# Altium footprint library Package_SO.PcbLib: 393 footprints (part 6 of 25)
Each footprint in its own frame and in the unit in brackets; x right, y up, seen from the top. Pads: shape width x height; smd on the part's side, far side on the other; paste and mask are expansions set on the pad; w line width, h text height; cw(c..) or ccw(c..) is an arc to the next point about the centre after c.
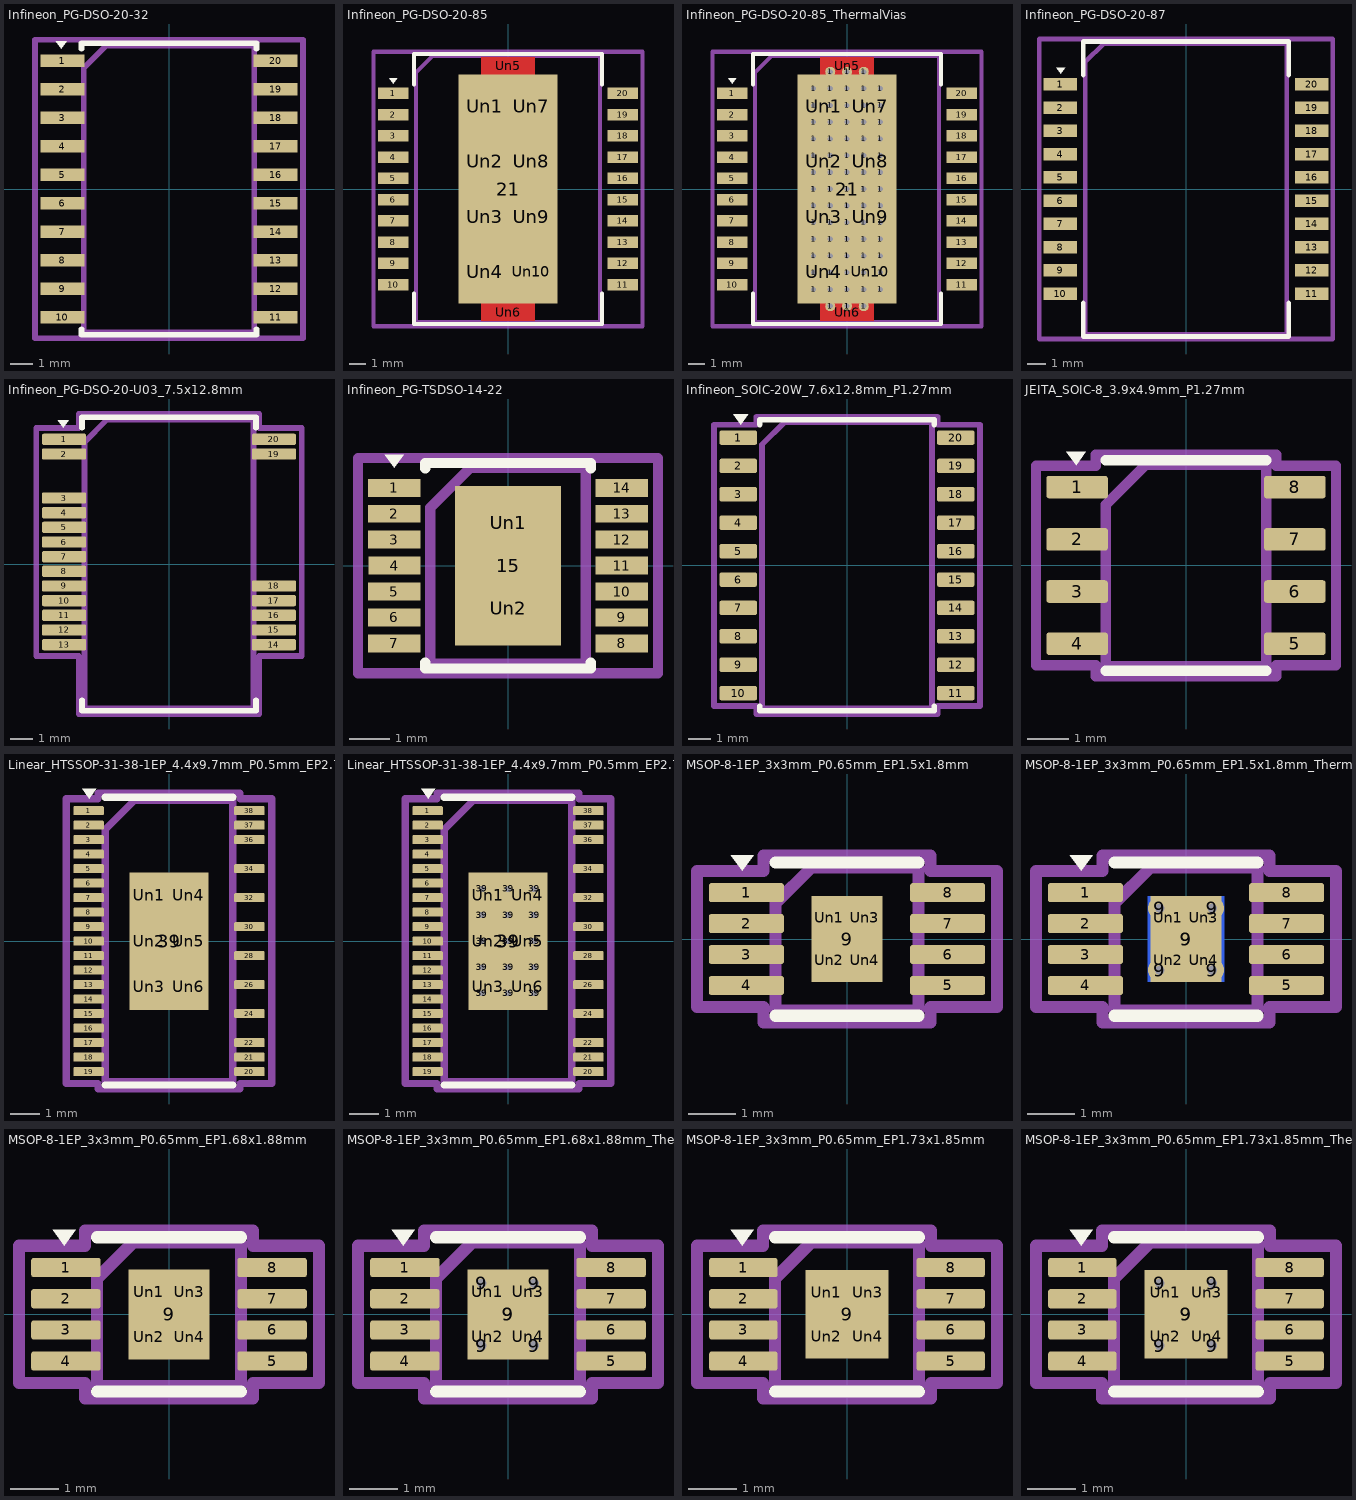
[diagram p5: the footprints below, top view; thin cyan lines are the x and y axes]

## Infineon_PG-DSO-20-32 [mm]
pads (20):
  rect 1.95x0.55 smd: 1(-4.75,5.715) 2(-4.75,4.445) 3(-4.75,3.175) 4(-4.75,1.905) 5(-4.75,0.635) 6(-4.75,-0.635) 7(-4.75,-1.905) 8(-4.75,-3.175) 9(-4.75,-4.445) 10(-4.75,-5.715) 11(4.75,-5.715) 12(4.75,-4.445) 13(4.75,-3.175) 14(4.75,-1.905) 15(4.75,-0.635) 16(4.75,0.635) 17(4.75,1.905) 18(4.75,3.175) 19(4.75,4.445) 20(4.75,5.715)
F.SilkS:
  region: -4.8,6.25 -5.04,6.58 -4.56,6.58
  lines w0.254: -3.9,-6.25 -3.9,-6.5 3.9,-6.5 3.9,-6.25 ; -3.9,6.25 -3.9,6.5 3.9,6.5 3.9,6.25
Top Assembly:
  lines w0.254: -3.8,-6.4 3.8,-6.4 3.8,6.4 -2.8,6.4 -3.8,5.4 -3.8,-6.4
  text "'.Designator'" at 0.84,-4.047 h1
Top Courtyard:
  lines w0.254: -5.98,-6.65 5.98,-6.65 5.98,6.65 -5.98,6.65 -5.98,-6.65
Top Designator:
  text ".Designator" at -7.618,-0.508 h1.52

## Infineon_PG-DSO-20-85 [mm]
pads (31):
  rect 1.83x0.68 smd: 1(-6.865,5.715) 2(-6.865,4.445) 3(-6.865,3.175) 4(-6.865,1.905) 5(-6.865,0.635) 6(-6.865,-0.635) 7(-6.865,-1.905) 8(-6.865,-3.175) 9(-6.865,-4.445) 10(-6.865,-5.715) 11(6.865,-5.715) 12(6.865,-4.445) 13(6.865,-3.175) 14(6.865,-1.905) 15(6.865,-0.635) 16(6.865,0.635) 17(6.865,1.905) 18(6.865,3.175) 19(6.865,4.445) 20(6.865,5.715)
  rect 5.9x13.7 smd: 21(0,0)
  rect 2.4x2.8 on Top Paste: Un1(-1.4,4.95) Un2(-1.4,1.65) Un3(-1.4,-1.65) Un4(-1.4,-4.95) Un7(1.4,4.95) Un8(1.4,1.65) Un9(1.4,-1.65) Un10(1.4,-4.95)
  rect 3.2x1 on Top Paste: Un5(0,7.36) Un6(0,-7.36)
F.Cu:
  region: 1.6,-7.87 -1.6,-7.87 -1.6,7.87 1.6,7.87
F.SilkS:
  region: -6.85,6.3 -7.09,6.63 -6.61,6.63
  lines w0.254: -5.61,-6.235 -5.61,-8.06 5.61,-8.06 5.61,-6.235 ; -5.61,6.235 -5.61,8.06 5.61,8.06 5.61,6.235
F.Mask:
  region: 1.6,-7.87 -1.6,-7.87 -1.6,7.87 1.6,7.87
Top Assembly:
  lines w0.254: -5.5,-7.95 5.5,-7.95 5.5,7.95 -4.5,7.95 -5.5,6.95 -5.5,-7.95
  text "'.Designator'" at -4.047,-0.84 h1
Top Courtyard:
  lines w0.254: -8.03,-8.2 8.03,-8.2 8.03,8.2 -8.03,8.2 -8.03,-8.2
Top Designator:
  text ".Designator" at -7.618,-0.508 h1.52

## Infineon_PG-DSO-20-85_ThermalVias [mm]
pads (113):
  rect 1.83x0.68 smd: 1(-6.865,5.715) 2(-6.865,4.445) 3(-6.865,3.175) 4(-6.865,1.905) 5(-6.865,0.635) 6(-6.865,-0.635) 7(-6.865,-1.905) 8(-6.865,-3.175) 9(-6.865,-4.445) 10(-6.865,-5.715) 11(6.865,-5.715) 12(6.865,-4.445) 13(6.865,-3.175) 14(6.865,-1.905) 15(6.865,-0.635) 16(6.865,0.635) 17(6.865,1.905) 18(6.865,3.175) 19(6.865,4.445) 20(6.865,5.715)
  round 0.6 hole 0.3: 1(-2,-6) 1(-2,-5) 1(-2,-4) 1(-2,-3) 1(-2,-2) 1(-2,-1) 1(-2,0) 1(-2,0) 1(-2,1) 1(-2,2) 1(-2,3) 1(-2,4) 1(-2,5) 1(-2,6) 1(-1,-7) 1(-1,-6) 1(-1,-5) 1(-1,-4) 1(-1,-3) 1(-1,-2) 1(-1,-1) 1(-1,0) 1(-1,0) 1(-1,1) 1(-1,2) 1(-1,3) 1(-1,4) 1(-1,5) 1(-1,6) 1(-1,7) 1(0,-7) 1(0,-7) 1(0,-6) 1(0,-6) 1(0,-5) 1(0,-5) 1(0,-4) 1(0,-4) 1(0,-3) 1(0,-3) 1(0,-2) 1(0,-2) 1(0,-1) 1(0,-1) 1(0,0) 1(0,0) 1(0,1) 1(0,2) 1(0,3) 1(0,4) 1(0,5) 1(0,6) 1(0,7) 1(1,-7) 1(1,-6) 1(1,-5) 1(1,-4) 1(1,-3) 1(1,-2) 1(1,-1) 1(1,0) 1(1,0) 1(1,1) 1(1,2) 1(1,3) 1(1,4) 1(1,5) 1(1,6) 1(1,7) 1(2,-6) 1(2,-5) 1(2,-4) 1(2,-3) 1(2,-2) 1(2,-1) 1(2,0) 1(2,1) 1(2,2) 1(2,3) 1(2,4) 1(2,5) 1(2,6)
  rect 5.9x13.7 smd: 21(0,0)
  rect 2.4x2.8 on Top Paste: Un1(-1.4,4.95) Un2(-1.4,1.65) Un3(-1.4,-1.65) Un4(-1.4,-4.95) Un7(1.4,4.95) Un8(1.4,1.65) Un9(1.4,-1.65) Un10(1.4,-4.95)
  rect 3.2x1 on Top Paste: Un5(0,7.36) Un6(0,-7.36)
F.Cu:
  region: 1.6,-7.87 -1.6,-7.87 -1.6,7.87 1.6,7.87
F.SilkS:
  region: -6.85,6.3 -7.09,6.63 -6.61,6.63
  lines w0.254: -5.61,-6.235 -5.61,-8.06 5.61,-8.06 5.61,-6.235 ; -5.61,6.235 -5.61,8.06 5.61,8.06 5.61,6.235
F.Mask:
  region: 1.6,-7.87 -1.6,-7.87 -1.6,7.87 1.6,7.87
Top Assembly:
  lines w0.254: -5.5,-7.95 5.5,-7.95 5.5,7.95 -4.5,7.95 -5.5,6.95 -5.5,-7.95
  text "'.Designator'" at -4.047,-0.84 h1
Top Courtyard:
  lines w0.254: -8.03,-8.2 8.03,-8.2 8.03,8.2 -8.03,8.2 -8.03,-8.2
Top Designator:
  text ".Designator" at -7.618,-0.508 h1.52

## Infineon_PG-DSO-20-87 [mm]
pads (20):
  rect 1.83x0.68 smd: 1(-6.865,5.715) 2(-6.865,4.445) 3(-6.865,3.175) 4(-6.865,1.905) 5(-6.865,0.635) 6(-6.865,-0.635) 7(-6.865,-1.905) 8(-6.865,-3.175) 9(-6.865,-4.445) 10(-6.865,-5.715) 11(6.865,-5.715) 12(6.865,-4.445) 13(6.865,-3.175) 14(6.865,-1.905) 15(6.865,-0.635) 16(6.865,0.635) 17(6.865,1.905) 18(6.865,3.175) 19(6.865,4.445) 20(6.865,5.715)
F.SilkS:
  region: -6.85,6.3 -7.09,6.63 -6.61,6.63
  lines w0.254: -5.61,-6.235 -5.61,-8.06 5.61,-8.06 5.61,-6.235 ; -5.61,6.235 -5.61,8.06 5.61,8.06 5.61,6.235
Top Assembly:
  lines w0.254: -5.5,-7.95 5.5,-7.95 5.5,7.95 -4.5,7.95 -5.5,6.95 -5.5,-7.95
  text "'.Designator'" at -4.047,-0.84 h1
Top Courtyard:
  lines w0.254: -8.03,-8.2 8.03,-8.2 8.03,8.2 -8.03,8.2 -8.03,-8.2
Top Designator:
  text ".Designator" at -7.618,-0.508 h1.52

## Infineon_PG-DSO-20-U03_7.5x12.8mm [mm]
pads (20):
  rrect25% 1.95x0.5 smd: 1(-4.65,5.525) 2(-4.65,4.875) 3(-4.65,2.925) 4(-4.65,2.275) 5(-4.65,1.625) 6(-4.65,0.975) 7(-4.65,0.325) 8(-4.65,-0.325) 9(-4.65,-0.975) 10(-4.65,-1.625) 11(-4.65,-2.275) 12(-4.65,-2.925) 13(-4.65,-3.575) 14(4.65,-3.575) 15(4.65,-2.925) 16(4.65,-2.275) 17(4.65,-1.625) 18(4.65,-0.975) 19(4.65,4.875) 20(4.65,5.525)
F.SilkS:
  region: -4.687,6.035 -4.928,6.365 -4.447,6.365
  lines w0.254: -3.86,-6.035 -3.86,-6.51 0,-6.51 3.86,-6.51 3.86,-6.035 ; -3.86,6.035 -3.86,6.51 0,6.51 3.86,6.51 3.86,6.035
Top Assembly:
  lines w0.254: -3.75,-6.4 3.75,-6.4 3.75,6.4 -2.75,6.4 -3.75,5.4 -3.75,-6.4
  text "'.Designator'" at -4.047,-0.84 h1
Top Courtyard:
  lines w0.254: -5.88,-4.08 -4,-4.08 -4,-6.65 4,-6.65 4,-4.08 5.88,-4.08 5.88,6.03 4,6.03 4,6.65 -4,6.65 -4,6.03 -5.88,6.03 -5.88,-4.08
Top Designator:
  text ".Designator" at -7.618,-0.508 h1.52

## Infineon_PG-TSDSO-14-22 [mm]
pads (17):
  rect 1.31x0.45 smd: 1(-2.85,1.95) 2(-2.85,1.3) 3(-2.85,0.65) 4(-2.845,0) 5(-2.85,-0.65) 6(-2.85,-1.3) 7(-2.85,-1.95) 8(2.85,-1.95) 9(2.85,-1.3) 10(2.85,-0.65) 11(2.85,0) 12(2.85,0.65) 13(2.85,1.3) 14(2.85,1.95)
  rect 2.65x4 smd: 15(0,0)
  rect 2.65x1.85 on Top Paste: Un1(0,1.075) Un2(0,-1.075)
F.SilkS:
  region: -2.85,2.45 -3.09,2.78 -2.61,2.78
  lines w0.254: -2.075,-2.43 -2.075,-2.575 2.075,-2.575 2.075,-2.43 ; -2.075,2.43 -2.075,2.575 2.075,2.575 2.075,2.43
Top Assembly:
  lines w0.254: -1.95,-2.45 1.95,-2.45 1.95,2.45 -0.95,2.45 -1.95,1.45 -1.95,-2.45
  text "'.Designator'" at -3.642,-0.756 h0.9
Top Courtyard:
  lines w0.254: -3.76,-2.7 3.76,-2.7 3.76,2.7 -3.76,2.7 -3.76,-2.7
Top Designator:
  text ".Designator" at -7.618,-0.508 h1.52

## Infineon_SOIC-20W_7.6x12.8mm_P1.27mm [mm]
pads (20):
  rrect25% 1.67x0.65 smd: 1(-4.865,5.715) 2(-4.865,4.445) 3(-4.865,3.175) 4(-4.865,1.905) 5(-4.865,0.635) 6(-4.865,-0.635) 7(-4.865,-1.905) 8(-4.865,-3.175) 9(-4.865,-4.445) 10(-4.865,-5.715) 11(4.865,-5.715) 12(4.865,-4.445) 13(4.865,-3.175) 14(4.865,-1.905) 15(4.865,-0.635) 16(4.865,0.635) 17(4.865,1.905) 18(4.865,3.175) 19(4.865,4.445) 20(4.865,5.715)
F.SilkS:
  region: -4.75,6.3 -5.09,6.77 -4.41,6.77
  lines w0.254: -3.91,-6.3 -3.91,-6.51 0,-6.51 3.91,-6.51 3.91,-6.3 ; -3.91,6.3 -3.91,6.51 0,6.51 3.91,6.51 3.91,6.3
Top Assembly:
  lines w0.254: -3.8,-6.4 3.8,-6.4 3.8,6.4 -2.8,6.4 -3.8,5.4 -3.8,-6.4
  text "'.Designator'" at -4.047,-0.84 h1
Top Courtyard:
  lines w0.254: -5.95,-6.29 -4.05,-6.29 -4.05,-6.65 4.05,-6.65 4.05,-6.29 5.95,-6.29 5.95,6.29 4.05,6.29 4.05,6.65 -4.05,6.65 -4.05,6.29 -5.95,6.29 -5.95,-6.29
Top Designator:
  text ".Designator" at -7.618,-0.508 h1.52

## JEITA_SOIC-8_3.9x4.9mm_P1.27mm [mm]
pads (8):
  rrect25% 1.5x0.55 smd: 1(-2.65,1.905) 2(-2.65,0.635) 3(-2.65,-0.635) 4(-2.65,-1.905) 5(2.65,-1.905) 6(2.65,-0.635) 7(2.65,0.635) 8(2.65,1.905)
F.SilkS:
  region: -2.675,2.44 -2.915,2.77 -2.435,2.77
  lines w0.254: -1.95,-2.56 0,-2.56 1.95,-2.56 ; -1.95,2.56 0,2.56 1.95,2.56
Top Assembly:
  lines w0.254: -1.95,-2.45 1.95,-2.45 1.95,2.45 -0.975,2.45 -1.95,1.475 -1.95,-2.45
  text "'.Designator'" at -3.969,-0.827 h0.98
Top Courtyard:
  lines w0.254: -3.65,-2.43 -2.2,-2.43 -2.2,-2.7 2.2,-2.7 2.2,-2.43 3.65,-2.43 3.65,2.43 2.2,2.43 2.2,2.7 -2.2,2.7 -2.2,2.43 -3.65,2.43 -3.65,-2.43
Top Designator:
  text ".Designator" at -7.768,-0.508 h1.52

## Linear_HTSSOP-31-38-1EP_4.4x9.7mm_P0.5mm_EP2.74x4.75mm [mm]
pads (38):
  rrect25% 1.05x0.315 smd: 1(-2.775,4.5) 2(-2.775,4) 3(-2.775,3.5) 4(-2.775,3) 5(-2.775,2.5) 6(-2.775,2) 7(-2.775,1.5) 8(-2.775,1) 9(-2.775,0.5) 10(-2.775,0) 11(-2.775,-0.5) 12(-2.775,-1) 13(-2.775,-1.5) 14(-2.775,-2) 15(-2.775,-2.5) 16(-2.775,-3) 17(-2.775,-3.5) 18(-2.775,-4) 19(-2.775,-4.5) 20(2.775,-4.5) 21(2.775,-4) 22(2.775,-3.5) 24(2.775,-2.5) 26(2.775,-1.5) 28(2.775,-0.5) 30(2.775,0.5) 32(2.775,1.5) 34(2.775,2.5) 36(2.775,3.5) 37(2.775,4) 38(2.775,4.5)
  rect 2.74x4.75 smd: 39(0,0)
  rrect23% 1.1x1.28 on Top Paste: Un1(-0.685,1.58) Un2(-0.685,0) Un3(-0.685,-1.58) Un4(0.685,1.58) Un5(0.685,0) Un6(0.685,-1.58)
F.SilkS:
  region: -2.75,4.918 -2.99,5.248 -2.51,5.248
  lines w0.254: -2.2,-4.96 0,-4.96 2.2,-4.96 ; -2.2,4.96 0,4.96 2.2,4.96
Top Assembly:
  lines w0.254: -2.2,-4.85 2.2,-4.85 2.2,4.85 -1.2,4.85 -2.2,3.85 -2.2,-4.85
  text "'.Designator'" at -4.047,-0.84 h1
Top Courtyard:
  lines w0.254: -3.55,-4.91 -2.45,-4.91 -2.45,-5.1 2.45,-5.1 2.45,-4.91 3.55,-4.91 3.55,4.91 2.45,4.91 2.45,5.1 -2.45,5.1 -2.45,4.91 -3.55,4.91 -3.55,-4.91
Top Designator:
  text ".Designator" at -7.768,-0.498 h1.52

## Linear_HTSSOP-31-38-1EP_4.4x9.7mm_P0.5mm_EP2.74x4.75mm_ThermalVias [mm]
pads (54):
  rrect25% 1.05x0.315 smd: 1(-2.775,4.5) 2(-2.775,4) 3(-2.775,3.5) 4(-2.775,3) 5(-2.775,2.5) 6(-2.775,2) 7(-2.775,1.5) 8(-2.775,1) 9(-2.775,0.5) 10(-2.775,0) 11(-2.775,-0.5) 12(-2.775,-1) 13(-2.775,-1.5) 14(-2.775,-2) 15(-2.775,-2.5) 16(-2.775,-3) 17(-2.775,-3.5) 18(-2.775,-4) 19(-2.775,-4.5) 20(2.775,-4.5) 21(2.775,-4) 22(2.775,-3.5) 24(2.775,-2.5) 26(2.775,-1.5) 28(2.775,-0.5) 30(2.775,0.5) 32(2.775,1.5) 34(2.775,2.5) 36(2.775,3.5) 37(2.775,4) 38(2.775,4.5)
  round 0.5 hole 0.2: 39(-0.9,-1.8) 39(-0.9,-0.9) 39(-0.9,0) 39(-0.9,0.9) 39(-0.9,1.8) 39(0,-1.8) 39(0,-0.9) 39(0,0) 39(0,0.9) 39(0,1.8) 39(0.9,-1.8) 39(0.9,-0.9) 39(0.9,0) 39(0.9,0.9) 39(0.9,1.8)
  rect 2.74x4.75 smd: 39(0,0)
  rect 2.3x4.1 smd far side: 39(0,0)
  rrect23% 1.1x1.28 on Top Paste: Un1(-0.685,1.58) Un2(-0.685,0) Un3(-0.685,-1.58) Un4(0.685,1.58) Un5(0.685,0) Un6(0.685,-1.58)
F.SilkS:
  region: -2.75,4.918 -2.99,5.248 -2.51,5.248
  lines w0.254: -2.2,-4.96 0,-4.96 2.2,-4.96 ; -2.2,4.96 0,4.96 2.2,4.96
Top Assembly:
  lines w0.254: -2.2,-4.85 2.2,-4.85 2.2,4.85 -1.2,4.85 -2.2,3.85 -2.2,-4.85
  text "'.Designator'" at -4.047,-0.84 h1
Top Courtyard:
  lines w0.254: -3.55,-4.91 -2.45,-4.91 -2.45,-5.1 2.45,-5.1 2.45,-4.91 3.55,-4.91 3.55,4.91 2.45,4.91 2.45,5.1 -2.45,5.1 -2.45,4.91 -3.55,4.91 -3.55,-4.91
Top Designator:
  text ".Designator" at -7.768,-0.498 h1.52

## MSOP-8-1EP_3x3mm_P0.65mm_EP1.5x1.8mm [mm]
pads (13):
  rrect25% 1.575x0.4 smd: 1(-2.113,0.975) 2(-2.113,0.325) 3(-2.113,-0.325) 4(-2.113,-0.975) 5(2.113,-0.975) 6(2.113,-0.325) 7(2.113,0.325) 8(2.113,0.975)
  rect 1.5x1.8 smd: 9(0,0)
  rrect25% 0.6x0.73 on Top Paste: Un1(-0.375,0.45) Un2(-0.375,-0.45) Un3(0.375,0.45) Un4(0.375,-0.45)
F.SilkS:
  region: -2.2,1.435 -2.44,1.765 -1.96,1.765
  lines w0.254: -1.5,-1.61 0,-1.61 1.5,-1.61 ; -1.5,1.61 0,1.61 1.5,1.61
Top Assembly:
  lines w0.254: -1.5,-1.5 1.5,-1.5 1.5,1.5 -0.75,1.5 -1.5,0.75 -1.5,-1.5
  text "'.Designator'" at -3.033,-0.628 h0.75
Top Courtyard:
  lines w0.254: -3.15,-1.43 -1.75,-1.43 -1.75,-1.75 1.75,-1.75 1.75,-1.43 3.15,-1.43 3.15,1.43 1.75,1.43 1.75,1.75 -1.75,1.75 -1.75,1.43 -3.15,1.43 -3.15,-1.43
Top Designator:
  text ".Designator" at -7.618,-0.508 h1.52

## MSOP-8-1EP_3x3mm_P0.65mm_EP1.5x1.8mm_ThermalVias [mm]
pads (18):
  rrect25% 1.575x0.4 smd: 1(-2.113,0.975) 2(-2.113,0.325) 3(-2.113,-0.325) 4(-2.113,-0.975) 5(2.113,-0.975) 6(2.113,-0.325) 7(2.113,0.325) 8(2.113,0.975)
  round 0.5 hole 0.2: 9(-0.55,-0.65) 9(-0.55,0.65) 9(0.55,-0.65) 9(0.55,0.65)
  rect 1.5x1.8 smd: 9(0,0)
  rect 1.6x1.8 smd far side: 9(0,0)
  rrect25% 0.63x0.75 on Top Paste: Un1(-0.375,0.45) Un2(-0.375,-0.45) Un3(0.375,0.45) Un4(0.375,-0.45)
F.SilkS:
  region: -2.2,1.435 -2.44,1.765 -1.96,1.765
  lines w0.254: -1.5,-1.61 0,-1.61 1.5,-1.61 ; -1.5,1.61 0,1.61 1.5,1.61
Top Assembly:
  lines w0.254: -1.5,-1.5 1.5,-1.5 1.5,1.5 -0.75,1.5 -1.5,0.75 -1.5,-1.5
  text "'.Designator'" at -3.033,-0.628 h0.75
Top Courtyard:
  lines w0.254: -3.15,-1.43 -1.75,-1.43 -1.75,-1.75 1.75,-1.75 1.75,-1.43 3.15,-1.43 3.15,1.43 1.75,1.43 1.75,1.75 -1.75,1.75 -1.75,1.43 -3.15,1.43 -3.15,-1.43
Top Designator:
  text ".Designator" at -7.618,-0.508 h1.52

## MSOP-8-1EP_3x3mm_P0.65mm_EP1.68x1.88mm [mm]
pads (13):
  rrect25% 1.45x0.4 smd: 1(-2.15,0.975) 2(-2.15,0.325) 3(-2.15,-0.325) 4(-2.15,-0.975) 5(2.15,-0.975) 6(2.15,-0.325) 7(2.15,0.325) 8(2.15,0.975)
  rect 1.68x1.88 smd: 9(0,0)
  rrect25% 0.68x0.76 on Top Paste: Un1(-0.42,0.47) Un2(-0.42,-0.47) Un3(0.42,0.47) Un4(0.42,-0.47)
F.SilkS:
  region: -2.187,1.435 -2.428,1.765 -1.947,1.765
  lines w0.254: -1.5,-1.61 0,-1.61 1.5,-1.61 ; -1.5,1.61 0,1.61 1.5,1.61
Top Assembly:
  lines w0.254: -1.5,-1.5 1.5,-1.5 1.5,1.5 -0.75,1.5 -1.5,0.75 -1.5,-1.5
  text "'.Designator'" at -3.033,-0.628 h0.75
Top Courtyard:
  lines w0.254: -3.13,-1.43 -1.75,-1.43 -1.75,-1.75 1.75,-1.75 1.75,-1.43 3.13,-1.43 3.13,1.43 1.75,1.43 1.75,1.75 -1.75,1.75 -1.75,1.43 -3.13,1.43 -3.13,-1.43
Top Designator:
  text ".Designator" at -7.618,-0.508 h1.52

## MSOP-8-1EP_3x3mm_P0.65mm_EP1.68x1.88mm_ThermalVias [mm]
pads (18):
  rrect25% 1.45x0.4 smd: 1(-2.15,0.975) 2(-2.15,0.325) 3(-2.15,-0.325) 4(-2.15,-0.975) 5(2.15,-0.975) 6(2.15,-0.325) 7(2.15,0.325) 8(2.15,0.975)
  round 0.5 hole 0.2: 9(-0.55,-0.65) 9(-0.55,0.65) 9(0.55,-0.65) 9(0.55,0.65)
  rect 1.68x1.88 smd: 9(0,0)
  rect 1.6x1.8 smd far side: 9(0,0)
  rrect25% 0.7x0.79 on Top Paste: Un1(-0.42,0.47) Un2(-0.42,-0.47) Un3(0.42,0.47) Un4(0.42,-0.47)
F.SilkS:
  region: -2.187,1.435 -2.428,1.765 -1.947,1.765
  lines w0.254: -1.5,-1.61 0,-1.61 1.5,-1.61 ; -1.5,1.61 0,1.61 1.5,1.61
Top Assembly:
  lines w0.254: -1.5,-1.5 1.5,-1.5 1.5,1.5 -0.75,1.5 -1.5,0.75 -1.5,-1.5
  text "'.Designator'" at -3.033,-0.628 h0.75
Top Courtyard:
  lines w0.254: -3.13,-1.43 -1.75,-1.43 -1.75,-1.75 1.75,-1.75 1.75,-1.43 3.13,-1.43 3.13,1.43 1.75,1.43 1.75,1.75 -1.75,1.75 -1.75,1.43 -3.13,1.43 -3.13,-1.43
Top Designator:
  text ".Designator" at -7.618,-0.508 h1.52

## MSOP-8-1EP_3x3mm_P0.65mm_EP1.73x1.85mm [mm]
pads (13):
  rrect25% 1.425x0.4 smd: 1(-2.163,0.975) 2(-2.163,0.325) 3(-2.163,-0.325) 4(-2.163,-0.975) 5(2.163,-0.975) 6(2.163,-0.325) 7(2.163,0.325) 8(2.163,0.975)
  rect 1.73x1.85 smd: 9(0,0)
  rrect25% 0.7x0.75 on Top Paste: Un1(-0.43,0.46) Un2(-0.43,-0.46) Un3(0.43,0.46) Un4(0.43,-0.46)
F.SilkS:
  region: -2.187,1.435 -2.428,1.765 -1.947,1.765
  lines w0.254: -1.5,-1.61 0,-1.61 1.5,-1.61 ; -1.5,1.61 0,1.61 1.5,1.61
Top Assembly:
  lines w0.254: -1.5,-1.5 1.5,-1.5 1.5,1.5 -0.75,1.5 -1.5,0.75 -1.5,-1.5
  text "'.Designator'" at -3.033,-0.628 h0.75
Top Courtyard:
  lines w0.254: -3.13,-1.43 -1.75,-1.43 -1.75,-1.75 1.75,-1.75 1.75,-1.43 3.13,-1.43 3.13,1.43 1.75,1.43 1.75,1.75 -1.75,1.75 -1.75,1.43 -3.13,1.43 -3.13,-1.43
Top Designator:
  text ".Designator" at -7.618,-0.508 h1.52

## MSOP-8-1EP_3x3mm_P0.65mm_EP1.73x1.85mm_ThermalVias [mm]
pads (18):
  rrect25% 1.425x0.4 smd: 1(-2.163,0.975) 2(-2.163,0.325) 3(-2.163,-0.325) 4(-2.163,-0.975) 5(2.163,-0.975) 6(2.163,-0.325) 7(2.163,0.325) 8(2.163,0.975)
  round 0.5 hole 0.2: 9(-0.55,-0.65) 9(-0.55,0.65) 9(0.55,-0.65) 9(0.55,0.65)
  rect 1.73x1.85 smd: 9(0,0)
  rect 1.6x1.8 smd far side: 9(0,0)
  rrect25% 0.72x0.77 on Top Paste: Un1(-0.43,0.46) Un2(-0.43,-0.46) Un3(0.43,0.46) Un4(0.43,-0.46)
F.SilkS:
  region: -2.187,1.435 -2.428,1.765 -1.947,1.765
  lines w0.254: -1.5,-1.61 0,-1.61 1.5,-1.61 ; -1.5,1.61 0,1.61 1.5,1.61
Top Assembly:
  lines w0.254: -1.5,-1.5 1.5,-1.5 1.5,1.5 -0.75,1.5 -1.5,0.75 -1.5,-1.5
  text "'.Designator'" at -3.033,-0.628 h0.75
Top Courtyard:
  lines w0.254: -3.13,-1.43 -1.75,-1.43 -1.75,-1.75 1.75,-1.75 1.75,-1.43 3.13,-1.43 3.13,1.43 1.75,1.43 1.75,1.75 -1.75,1.75 -1.75,1.43 -3.13,1.43 -3.13,-1.43
Top Designator:
  text ".Designator" at -7.618,-0.508 h1.52